# EAGLE library part SN74CBT16233 (library toyotune)
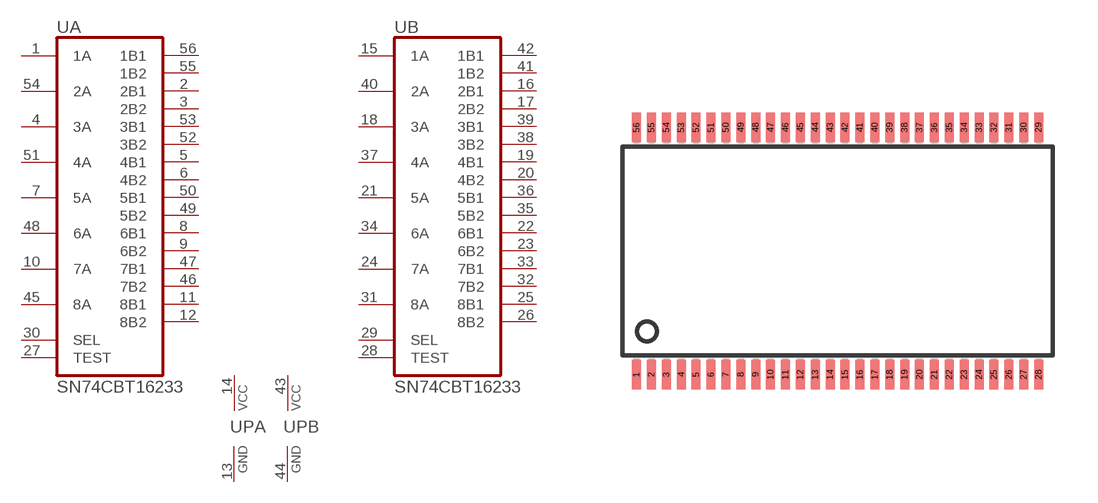
[diagram p26: symbol with the pads of DGG_R-PDSO-G56; footprint DGG_R-PDSO-G56]

Designator prefix -; gates A=SN74CBT16233 B=SN74CBT16233 PA=PWRN-2 PB=PWRN-2

## SN74CBT16233DGGR  [DGG_R-PDSO-G56]
1  A:1A
2  A:2B1
3  A:2B2
4  A:3A
5  A:4B1
6  A:4B2
7  A:5A
8  A:6B1
9  A:6B2
10  A:7A
11  A:8B1
12  A:8B2
13  PA:GND  pwr
14  PA:VCC  pwr
15  B:1A
16  B:2B1
17  B:2B2
18  B:3A
19  B:4B1
20  B:4B2
21  B:5A
22  B:6B1
23  B:6B2
24  B:7A
25  B:8B1
26  B:8B2
27  A:TEST  in
28  B:TEST  in
29  B:SEL  in
30  A:SEL  in
31  B:8A
32  B:7B2
33  B:7B1
34  B:6A
35  B:5B2
36  B:5B1
37  B:4A
38  B:3B2
39  B:3B1
40  B:2A
41  B:1B2
42  B:1B1
43  PB:VCC  pwr
44  PB:GND  pwr
45  A:8A
46  A:7B2
47  A:7B1
48  A:6A
49  A:5B2
50  A:5B1
51  A:4A
52  A:3B2
53  A:3B1
54  A:2A
55  A:1B2
56  A:1B1

## Footprint DGG_R-PDSO-G56 (pad centres in mm)
Shrink Small Outline Package
smd 0.3 x 1: 1 -6.7,-4.15; 2 -6.2,-4.15; 3 -5.7,-4.15; 4 -5.2,-4.15; 5 -4.7,-4.15; 6 -4.2,-4.15; 7 -3.7,-4.15; 8 -3.2,-4.15; 9 -2.7,-4.15; 10 -2.2,-4.15; 11 -1.7,-4.15; 12 -1.2,-4.15; 13 -0.7,-4.15; 14 -0.2,-4.15; 15 0.3,-4.15; 16 0.8,-4.15; 17 1.3,-4.15; 18 1.8,-4.15; 19 2.3,-4.15; 20 2.8,-4.15; 21 3.3,-4.15; 22 3.8,-4.15; 23 4.3,-4.15; 24 4.8,-4.15; 25 5.3,-4.15; 26 5.8,-4.15; 27 6.3,-4.15; 28 6.8,-4.15; 29 6.8,4.15; 30 6.3,4.15; 31 5.8,4.15; 32 5.3,4.15; 33 4.8,4.15; 34 4.3,4.15; 35 3.8,4.15; 36 3.3,4.15; 37 2.8,4.15; 38 2.3,4.15; 39 1.8,4.15; 40 1.3,4.15; 41 0.8,4.15; 42 0.3,4.15; 43 -0.2,4.15; 44 -0.7,4.15; 45 -1.2,4.15; 46 -1.7,4.15; 47 -2.2,4.15; 48 -2.7,4.15; 49 -3.2,4.15; 50 -3.7,4.15; 51 -4.2,4.15; 52 -4.7,4.15; 53 -5.2,4.15; 54 -5.7,4.15; 55 -6.2,4.15; 56 -6.7,4.15